# EAGLE library part M54564P (library M54564P-FP)
M54564P is an eight-circuit output-sourcing Darlington transistor array. The circuits are made of PNP and NPN transistors. Both the semiconductor integrated circuits perform high-current driving with extremely low input current supply.
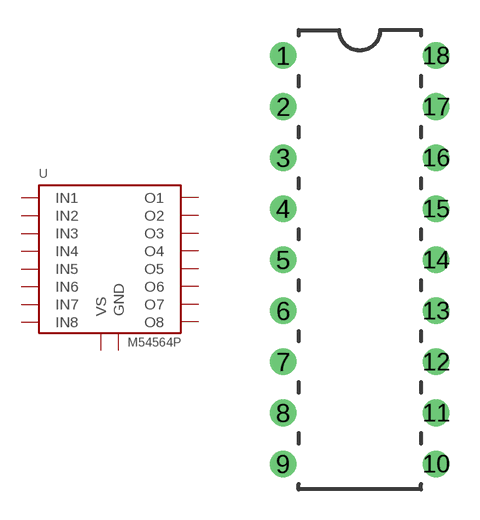
[diagram p0: symbol with the pads of DIL18; footprint DIL18]

Designator prefix -

## M54564P (MPN: M54564P)  [DIL18]
1  IN1  in
2  IN2  in
3  IN3  in
4  IN4  in
5  IN5  in
6  IN6  in
7  IN7  in
8  IN8  in
9  VS  pwr
10  GND  pwr
11  O8  out
12  O7  out
13  O6  out
14  O5  out
15  O4  out
16  O3  out
17  O2  out
18  O1  out

## Footprint DIL18 (pad centres in mm)
Dual In Line Package
drill 0.813: 1 -3.81,10.16; 2 -3.81,7.62; 3 -3.81,5.08; 4 -3.81,2.54; 5 -3.81,0; 6 -3.81,-2.54; 7 -3.81,-5.08; 8 -3.81,-7.62; 9 -3.81,-10.16; 10 3.81,-10.16; 11 3.81,-7.62; 12 3.81,-5.08; 13 3.81,-2.54; 14 3.81,0; 15 3.81,2.54; 16 3.81,5.08; 17 3.81,7.62; 18 3.81,10.16